# Altium schematic symbol library SCH - CRYSTALS - ABRACON CRYSTAL ABM8G.SCHLIB: 1 symbol
Pins are listed as number, name and electrical type; pins without a type are passive.

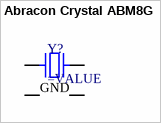
[diagram p0: symbol Abracon Crystal ABM8G]

## Abracon Crystal ABM8G
designator Y?
SMT Crystal
footprint ABRACON ABM8G (Crystal, 4-Leads, Body 2.50x3.20mm, Pitch 2.20mm, IPC Medium Density)
pins: 1, 2 GND, 3, 4 GND